# Altium integrated library 10uH Inductor - 0805 (2012 Metric).IntLib: 1 symbol
Pins are listed as number, name and electrical type; pins without a type are passive.

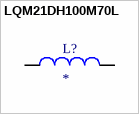
[diagram p0: symbol LQM21DH100M70L]

## LQM21DH100M70L
designator L?
Inductor with Inductance: 10uH Tol. +/-20%, Package: 0805 (2012); MF: Murata Electronics North America; MP: LQM21DH100M70L; Purchase-URL: https://pricing.snapeda.com/search/part/LQM21DH100M70L/?ref=eda; SnapEDA_Link: https://www.snapeda.com/parts/LQM21DH100M70L/Murata%20Electronics%20North%20America/view-part/3623140/?ref=snap; Value: *; Package: 2012 Bourns; Check_prices: https://www.snapeda.com/parts/LQM21DH100M70L/Murata%20Electronics%20North%20America/view-part/3623140/?ref=eda; Digi-Key_Part_Number: 490-18463-1-ND
footprint INDC2012X145N
pins: 1, 2